# Altium schematic symbol library LD1117S33CTR.SchLib: 1 symbol
Pins are listed as number, name and electrical type; pins without a type are passive.

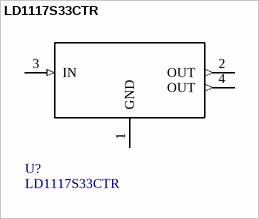
[diagram p0: symbol LD1117S33CTR]

## LD1117S33CTR
designator U?
/ Linear Voltage Regulator IC 1 Output 800mA SOT-223 /; MF: STMicroelectronics; Availability: Unavailable; Package: SOT-223 STMicroelectronics; MP: LD1117S33CTR; Price: None; SnapEDA_Link: https://www.snapeda.com/parts/LD1117S33CTR/STMicroelectronics/view-part/46021/?ref=snap; Value: *
footprint *SOT223
pins: 1 GND, 2 OUT (out), 3 IN (in), 4 OUT (out)